# EAGLE library part IR2151PBF (library untitled)
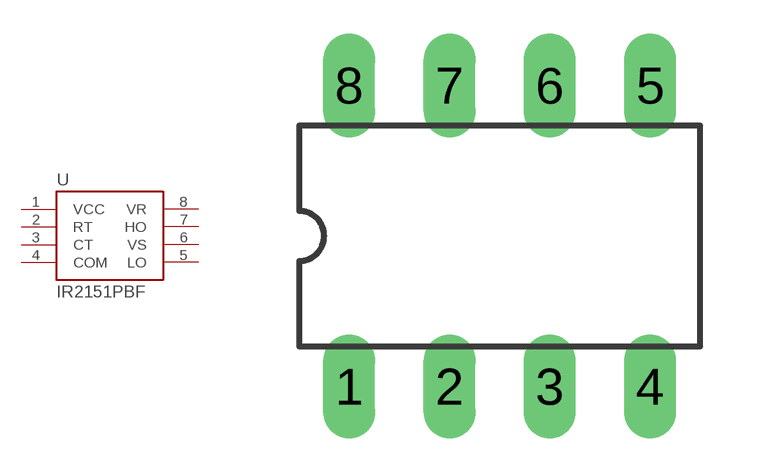
[diagram p2: symbol with the pads of DIP-8; footprint DIP-8]

Designator prefix -

## IR2151PBF  [DIP-8]
1  VCC  sup
2  RT  sup
3  CT  sup
4  COM  sup
5  LO  sup
6  VS  sup
7  HO  sup
8  VR  sup

## Footprint DIP-8 (pad centres in mm)
drill 0.813 long: 1 -3.81,-3.81; 2 -1.27,-3.81; 3 1.27,-3.81; 4 3.81,-3.81; 5 3.81,3.81; 6 1.27,3.81; 7 -1.27,3.81; 8 -3.81,3.81